# Altium footprint library MitchSwitch_Bypass.PCBLIB: 270 footprints (part 1 of 17)
Each footprint in its own frame and in the unit in brackets; x right, y up, seen from the top. Pads: shape width x height; smd on the part's side, far side on the other; paste and mask are expansions set on the pad; w line width, h text height; cw(c..) or ccw(c..) is an arc to the next point about the centre after c.
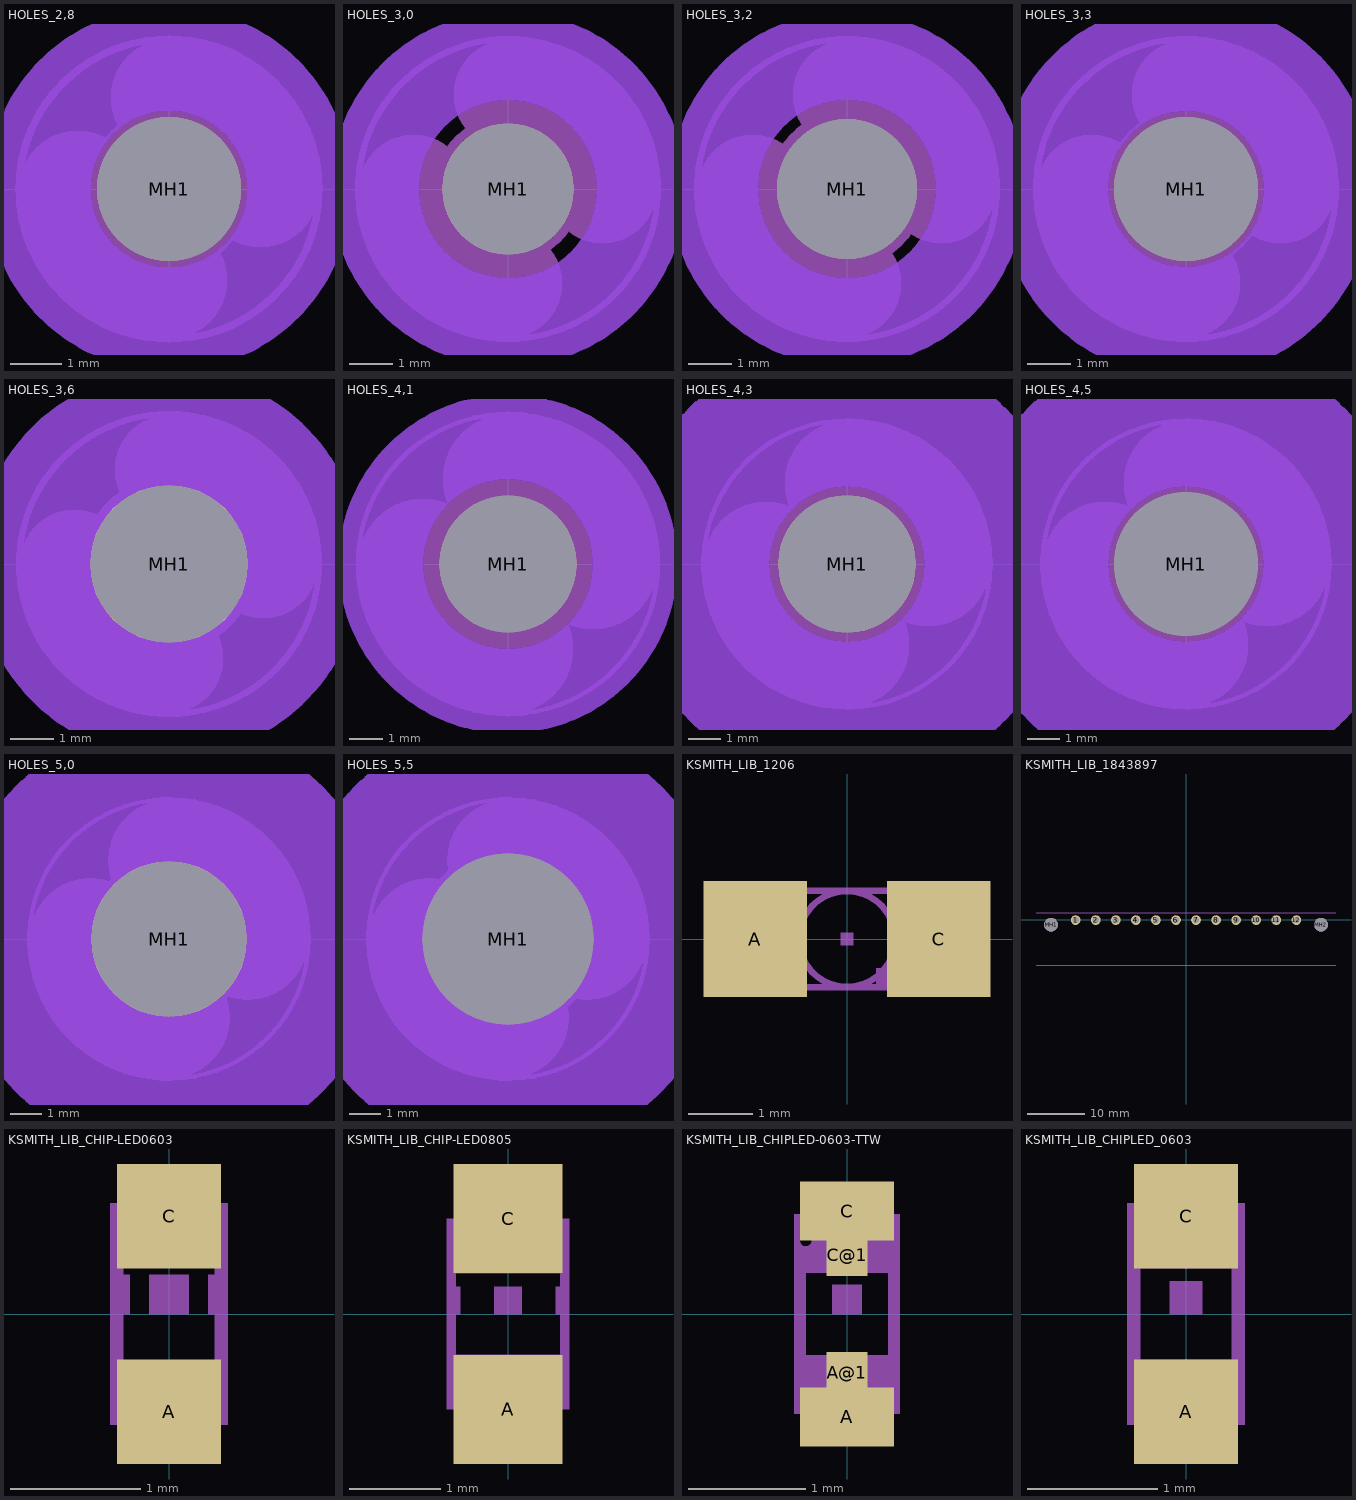
[diagram p0: the footprints below, top view; thin cyan lines are the x and y axes]

## HOLES_2,8 [mil]
pads (1):
  round 110.24 hole 110.24 unplated: MH1(0,0)
Top Layer keep-out:
  circle w80: c0,0 r100
  circle w80: c0,0 r100
  circle w80: c0,0 r100
Bottom Layer keep-out:
  circle w80: c0,0 r100
  circle w80: c0,0 r100
Mechanical 3:
  circle w18: c0,0 r25
  lines w90: -70,0 ccw(c0,0) 0,-70 ; 0,70 cw(c0,0) 70,0
Mechanical 7:
  circle w8: c0,0 r59.06
  circle w6: c0,0 r115

## HOLES_3,0 [mm]
pads (1):
  round 3 hole 3 unplated: MH1(0,0)
Top Layer keep-out:
  circle w2.032: c0,0 r3.048
  circle w2.032: c0,0 r3.048
  circle w2.032: c0,0 r3.048
Bottom Layer keep-out:
  circle w2.032: c0,0 r3.048
  circle w2.032: c0,0 r3.048
Mechanical 3:
  circle w0.457: c0,0 r0.762
  lines w2.489: -2.159,0 ccw(c0,0) 0,-2.159 ; 0,2.159 cw(c0,0) 2.159,0
Mechanical 7:
  circle w0.152: c0,0 r3.429
  circle w0.203: c0,0 r1.6
Mechanical 19:
  text "3,0" at -1.27,-3.81 h1.97

## HOLES_3,2 [mil]
pads (1):
  round 125.98 hole 125.98 unplated: MH1(0,0)
Top Layer keep-out:
  circle w80: c0,0 r120
  circle w80: c0,0 r120
  circle w80: c0,0 r120
Bottom Layer keep-out:
  circle w80: c0,0 r120
  circle w80: c0,0 r120
Mechanical 3:
  circle w18: c0,0 r30
  lines w98: -85,0 ccw(c0,0) 0,-85 ; 0,85 cw(c0,0) 85,0
Mechanical 7:
  circle w6: c0,0 r135
  circle w8: c0,0 r66.93

## HOLES_3,3 [mil]
pads (1):
  round 129.92 hole 129.92 unplated: MH1(0,0)
Top Layer keep-out:
  circle w100: c0,0 r120
  circle w80: c0,0 r120
  circle w80: c0,0 r120
Bottom Layer keep-out:
  circle w100: c0,0 r120
  circle w80: c0,0 r120
Mechanical 3:
  circle w18: c0,0 r30
  lines w98: -85,0 ccw(c0,0) 0,-85 ; 0,85 cw(c0,0) 85,0
Mechanical 7:
  circle w6: c0,0 r135
  circle w8: c0,0 r68.9

## HOLES_3,6 [mil]
pads (1):
  round 141.73 hole 141.73 unplated: MH1(0,0)
Top Layer keep-out:
  circle w109: c0,0 r120
  circle w80: c0,0 r120
  circle w80: c0,0 r120
Bottom Layer keep-out:
  circle w109: c0,0 r120
  circle w80: c0,0 r120
Mechanical 3:
  circle w18: c0,0 r30
  lines w98: -85,0 ccw(c0,0) 0,-85 ; 0,85 cw(c0,0) 85,0
Mechanical 7:
  circle w6: c0,0 r135
  circle w8: c0,0 r74.8

## HOLES_4,1 [mil]
pads (1):
  round 161.42 hole 161.42 unplated: MH1(0,0)
Top Layer keep-out:
  circle w100: c0,0 r150
  circle w100: c0,0 r150
  circle w100: c0,0 r150
Bottom Layer keep-out:
  circle w100: c0,0 r150
  circle w100: c0,0 r150
Mechanical 3:
  circle w18: c0,0 r30
  lines w154: -100,0 ccw(c0,0) 0,-100 ; 0,100 cw(c0,0) 100,0
Mechanical 7:
  circle w6: c0,0 r177
  circle w6: c0,0 r84.65

## HOLES_4,3 [mil]
pads (1):
  round 169.29 hole 169.29 unplated: MH1(0,0)
Top Layer keep-out:
  circle w179: c0,0 r185
  circle w100: c0,0 r150.33
  circle w100: c0,0 r150
Bottom Layer keep-out:
  circle w179: c0,0 r185
  circle w100: c0,0 r150
Mechanical 3:
  circle w6: c0,0 r30
  lines w154: -100,0 ccw(c0,0) 0,-100 ; 0,100 cw(c0,0) 100,0
Mechanical 7:
  circle w6: c0,0 r177
  circle w6: c0,0 r88.58

## HOLES_4,5 [mil]
pads (1):
  round 177.17 hole 177.17 unplated: MH1(0,0)
Top Layer keep-out:
  circle w179: c0,0 r185
  circle w100: c0,0 r150.33
  circle w100: c0,0 r150
Bottom Layer keep-out:
  circle w179: c0,0 r185
  circle w100: c0,0 r150
Mechanical 3:
  circle w18: c0,0 r30
  lines w154: -100,0 ccw(c0,0) 0,-100 ; 0,100 cw(c0,0) 100,0
Mechanical 7:
  circle w6: c0,0 r177
  circle w6: c0,0 r92.52
  lines w2: -175,0 -85,0 ; 0,-175 0,-85 ; 0,85 0,175 ; 85,0 175,0
Mechanical 19:
  text "4,5" at -50,-175 h77.5

## HOLES_5,0 [mm]
pads (1):
  round 5 hole 5 unplated: MH1(0,0)
Top Layer keep-out:
  circle w4.547: c0,0 r4.699
  circle w2.54: c0,0 r4.826
  circle w2.54: c0,0 r4.826
Bottom Layer keep-out:
  circle w4.547: c0,0 r4.699
  circle w2.54: c0,0 r4.826
Mechanical 3:
  circle w0.457: c0,0 r0.762
  lines w3.912: -2.54,0 ccw(c0,0) 0,-2.54 ; 0,2.54 cw(c0,0) 2.54,0
Mechanical 7:
  circle w0.152: c0,0 r4.496
  circle w0.152: c0,0 r2.6
  lines w0.051: -4.445,0 -2.159,0 ; 0,-4.445 0,-2.159 ; 0,2.159 0,4.445 ; 2.159,0 4.445,0
Mechanical 19:
  text "5,0" at -1.27,-4.445 h1.97

## HOLES_5,5 [mil]
pads (1):
  round 216.54 hole 216.54 unplated: MH1(0,0)
Top Layer keep-out:
  circle w179: c0,0 r185
  circle w100: c0,0 r190
  circle w100: c0,0 r190
Bottom Layer keep-out:
  circle w179: c0,0 r185
  circle w100: c0,0 r190
Mechanical 3:
  circle w18: c0,0 r30
  lines w154: -100,0 ccw(c0,0) 0,-100 ; 0,100 cw(c0,0) 100,0
Mechanical 7:
  circle w6: c0,0 r177
  circle w6: c0,0 r112.2
  lines w2: -175,0 -85,0 ; 0,-175 0,-85 ; 0,85 0,175 ; 85,0 175,0

## KSMITH_LIB_1206 [mil]
pads (2):
  rect 62.99x70.98 smd: A(-55.98,0) C(55.98,0)
Mechanical 3:
  region: 17.72,-27.56 17.72,-17.72 31.5,-17.72 31.5,-27.56
  region: 31.5,-27.56 31.5,19.69 35.43,19.69 35.43,-27.56
  region: 31.5,21.65 31.5,27.56 35.43,27.56 35.43,21.65
  region: -35.43,-27.56 -35.43,19.69 -31.5,19.69 -31.5,-27.56
  region: -35.43,21.65 -35.43,27.56 -31.5,27.56 -31.5,21.65
  lines w4: -21.65,-19.69 cw(c0.01,0) -21.65,19.69 ; 21.65,-19.69 ccw(c-0.01,0) 21.65,19.69 ; -61.02,-29.53 61.02,-29.53 61.02,29.53 -61.02,29.53 -61.02,-29.53
Mechanical 7:
  region: -3.94,-3.94 -3.94,3.94 3.94,3.94 3.94,-3.94
  region: 17.72,-27.56 17.72,-17.72 23.62,-17.72 23.62,-27.56
  lines w4: -21.65,-19.69 ccw(c0,-0.01) 21.65,-19.69 ; -21.65,19.69 cw(c0,0.01) 21.65,19.69

## KSMITH_LIB_1843897 [mil]
pads (14):
  round 66.93 hole 43.31: 1(-757.87,-3.94) 2(-620.08,-3.94) 3(-482.28,-3.94) 4(-344.49,-3.94) 5(-206.69,-3.94) 6(-68.9,-3.94) 7(68.9,-3.94) 8(206.69,-3.94) 9(344.49,-3.94) 10(482.28,-3.94) 11(620.08,-3.94) 12(757.87,-3.94)
  round 94.49 hole 94.49 unplated: MH1(-927.17,-35.43) MH2(927.17,-35.43)
Mechanical 7:
  lines w5: -1030.51,-314.96 1030.51,-314.96 ; -1030.51,47.24 1030.51,47.24
3D body "pxc_1843897_06_MC-1-5-12-GF-3-5_3D.stp": height 305.2, standoff -114.09, extent -1032.53,-317.2 1026.53,45

## KSMITH_LIB_CHIP-LED0603 [mil]
pads (2):
  rect 31.5x31.5 smd: A(0,-29.53) C(0,29.53)
Mechanical 3:
  region: -17.72,17.72 -17.72,33.46 17.72,33.46 17.72,17.72
  region: -17.72,-33.46 -17.72,-17.72 17.72,-17.72 17.72,-33.46
  lines w4: -15.75,-17.72 -15.75,17.72 ; 15.75,-17.72 15.75,17.72
Mechanical 7:
  region: -17.72,0 -17.72,11.81 -11.81,11.81 -11.81,0
  region: 11.81,0 11.81,11.81 17.72,11.81 17.72,0
  region: -5.91,0 -5.91,11.81 5.91,11.81 5.91,0

## KSMITH_LIB_CHIP-LED0805 [mil]
pads (2):
  rect 47.24x47.24 smd: A(0,-41.34) C(0,41.34)
Mechanical 3:
  region: -26.57,17.72 -26.57,41.34 26.57,41.34 26.57,17.72
  region: -26.57,-41.34 -26.57,-17.72 26.57,-17.72 26.57,-41.34
  lines w4: -24.61,-17.72 -24.61,17.72 ; 24.61,-18.7 24.61,17.72
Mechanical 7:
  region: -26.57,0 -26.57,11.81 -20.67,11.81 -20.67,0
  region: 20.67,0 20.67,11.81 26.57,11.81 26.57,0
  region: -5.91,0 -5.91,11.81 5.91,11.81 5.91,0

## KSMITH_LIB_CHIPLED-0603-TTW [mm]
pads (4):
  rect 0.8x0.5 smd paste+0 mask+0: A(0,-0.875) C(0,0.875)
  rect 0.35x0.35 smd: A@1(0,-0.5) C@1(0,0.5)
Top Solder:
  region: -0.175,0.325 -0.175,0.7 0.175,0.7 0.175,0.325
  region: -0.4,0.625 -0.4,1.125 0.4,1.125 0.4,0.625
  region: -0.4,-1.125 -0.4,-0.625 0.4,-0.625 0.4,-1.125
  region: -0.175,-0.675 -0.175,-0.325 0.175,-0.325 0.175,-0.675
Mechanical 3:
  circle w0.051: c-0.35,0.625 r0.075
  region: -0.45,0.7 -0.45,0.85 -0.25,0.85 -0.25,0.7
  region: -0.275,0.55 -0.275,0.6 -0.225,0.6 -0.225,0.55
  region: -0.45,0.35 -0.45,0.725 -0.4,0.725 -0.4,0.35
  region: 0.25,0.55 0.25,0.85 0.45,0.85 0.45,0.55
  region: -0.45,0.35 -0.45,0.575 0.45,0.575 0.45,0.35
  region: -0.45,-0.85 -0.45,-0.35 -0.25,-0.35 -0.25,-0.85
  region: 0.25,-0.85 0.25,-0.35 0.45,-0.35 0.45,-0.85
  region: -0.275,-0.575 -0.275,-0.35 0.275,-0.35 0.275,-0.575
  region: -0.275,-0.65 -0.275,-0.55 -0.175,-0.55 -0.175,-0.65
  region: 0.175,-0.65 0.175,-0.55 0.275,-0.55 0.275,-0.65
  lines w0.051: -0.275,-0.825 cw(c0,-0.825) 0.275,-0.825
  lines w0.102: -0.4,-0.35 -0.4,0.375 ; -0.3,0.8 ccw(c0,0.826) 0.3,0.8 ; 0.4,-0.35 0.4,0.35
Mechanical 7:
  region: -0.125,0 -0.125,0.25 0.125,0.25 0.125,0

## KSMITH_LIB_CHIPLED_0603 [mil]
pads (2):
  rect 31.5x31.5 smd: A(0,-29.53) C(0,29.53)
Mechanical 3:
  circle w2: c-13.78,24.61 r2.95
  region: -17.72,27.56 -17.72,33.46 -9.84,33.46 -9.84,27.56
  region: -10.83,21.65 -10.83,23.62 -8.86,23.62 -8.86,21.65
  region: -17.72,13.78 -17.72,28.54 -15.75,28.54 -15.75,13.78
  region: 9.84,21.65 9.84,33.46 17.72,33.46 17.72,21.65
  region: -17.72,13.78 -17.72,22.64 17.72,22.64 17.72,13.78
  region: -17.72,-33.46 -17.72,-13.78 -9.84,-13.78 -9.84,-33.46
  region: 9.84,-33.46 9.84,-13.78 17.72,-13.78 17.72,-33.46
  region: -10.83,-22.64 -10.83,-13.78 10.83,-13.78 10.83,-22.64
  region: -10.83,-25.59 -10.83,-21.65 -6.89,-21.65 -6.89,-25.59
  region: 6.89,-25.59 6.89,-21.65 10.83,-21.65 10.83,-25.59
  lines w2: -10.83,-32.48 cw(c0,-32.48) 10.83,-32.48
  lines w4: -15.75,-13.78 -15.75,14.76 ; -11.81,31.5 ccw(c0,32.53) 11.81,31.5 ; 15.75,-13.78 15.75,13.78
Mechanical 7:
  region: -4.92,0 -4.92,9.84 4.92,9.84 4.92,0